# Altium schematic symbol library Header_2P_Hirose_DF61_1.Schlib: 1 symbol
Pins are listed as number, name and electrical type; pins without a type are passive.

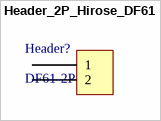
[diagram p0: symbol Header_2P_Hirose_DF61]

## Header_2P_Hirose_DF61
designator Header?, comment DF61-2P
footprint HRS_DF61_2P
pins: 1, 2